# EAGLE library part MAX1737 (library brokenlcd)
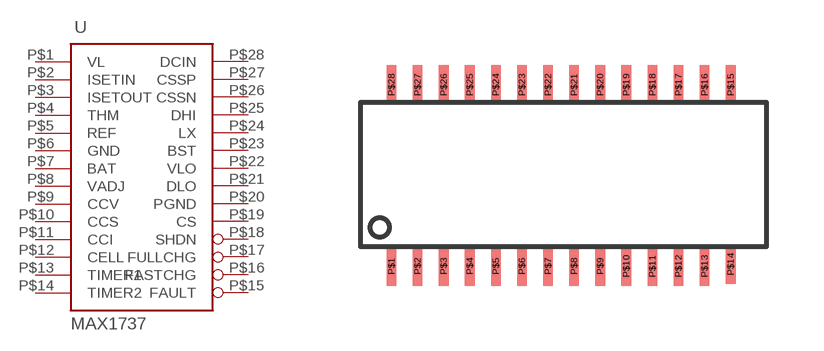
[diagram p2: symbol with the pads of QSOP28; footprint QSOP28]

Designator prefix -

## MAX1737  [QSOP28]
P$1  VL  pwr
P$2  ISETIN
P$3  ISETOUT
P$4  THM
P$5  REF
P$6  GND
P$7  BAT
P$8  VADJ
P$9  CCV
P$10  CCS
P$11  CCI
P$12  CELL
P$13  TIMER1
P$14  TIMER2
P$15  FAULT
P$16  FASTCHG
P$17  FULLCHG
P$18  SHDN
P$19  CS
P$20  PGND
P$21  DLO
P$22  VLO
P$23  BST
P$24  LX
P$25  DHI
P$26  CSSN
P$27  CSSP
P$28  DCIN

## Footprint QSOP28 (pad centres in mm)
smd 0.254 x 1.041: P$1 0.813,-0.508; P$2 1.499,-0.508; P$3 2.184,-0.508; P$4 2.87,-0.508; P$5 3.556,-0.508; P$6 4.242,-0.508; P$7 4.928,-0.508; P$8 5.613,-0.508; P$9 6.299,-0.508; P$10 6.985,-0.508; P$11 7.671,-0.508; P$12 8.357,-0.508; P$13 9.042,-0.508; P$14 9.728,-0.457; P$15 9.728,4.267; P$16 9.042,4.267; P$17 8.357,4.267; P$18 7.671,4.267; P$19 6.985,4.267; P$20 6.299,4.267; P$21 5.613,4.267; P$22 4.928,4.267; P$23 4.242,4.267; P$24 3.556,4.267; P$25 2.87,4.267; P$26 2.184,4.267; P$27 1.499,4.267; P$28 0.813,4.267